# Altium footprint library Devindia_v4.0.PcbLib: 116 footprints (part 2 of 8)
Each footprint in its own frame and in the unit in brackets; x right, y up, seen from the top. Pads: shape width x height; smd on the part's side, far side on the other; paste and mask are expansions set on the pad; w line width, h text height; cw(c..) or ccw(c..) is an arc to the next point about the centre after c.
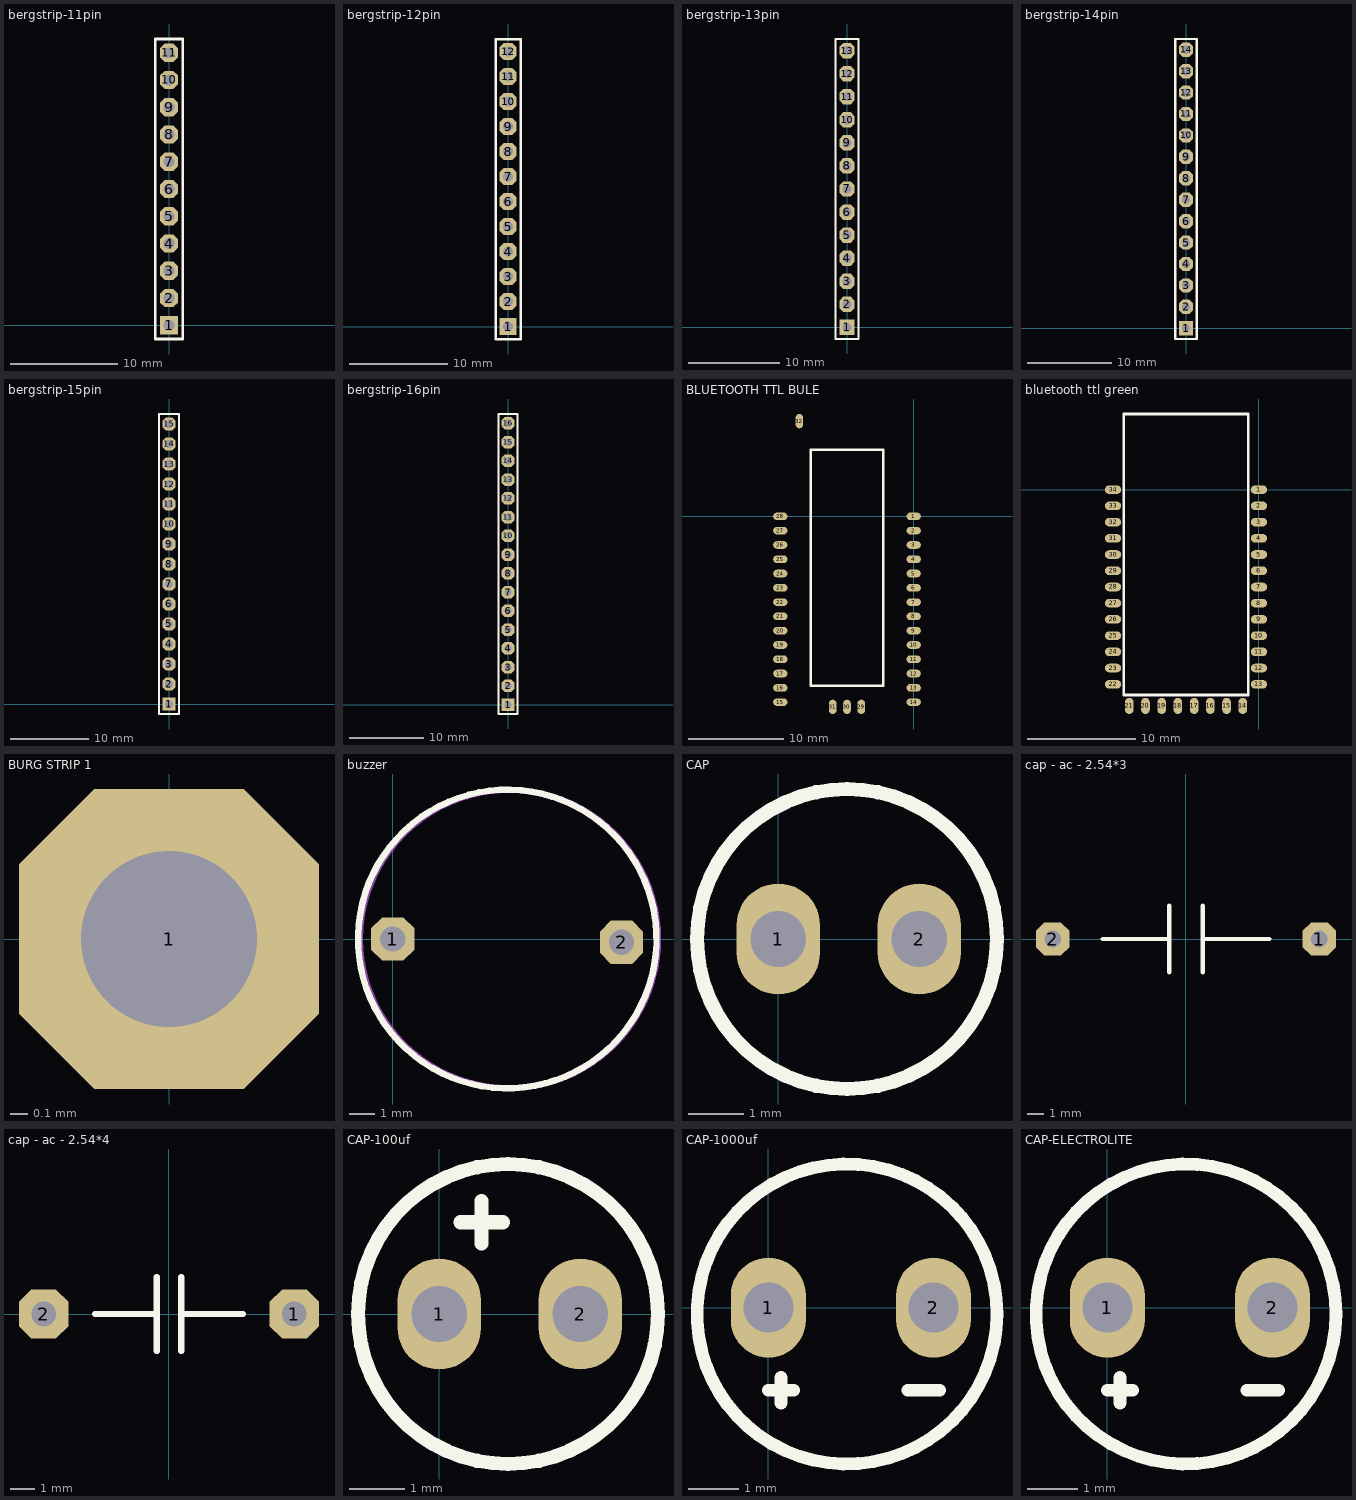
[diagram p1: the footprints below, top view; thin cyan lines are the x and y axes]

## bergstrip-11pin [mm]
pads (11):
  rect 1.7x1.7 hole 1: 1(0,0)
  oct 1.7x1.7 hole 1: 2(0,2.54) 3(0,5.08) 4(0,7.62) 5(0,10.16) 6(0,12.7) 7(0,15.24) 8(0,17.78) 9(0,20.32) 10(0,22.86) 11(0,25.4)
Top Overlay:
  lines w0.254: -1.27,-1.27 1.27,-1.27 1.27,26.67 -1.27,26.67 -1.27,-1.27
3D body: height 2, standoff 0, extent -1.27,24.13 1.27,26.67
3D body: height 9.89, standoff 2, extent -0.49,24.892 0.508,25.888
3D body: height 2, standoff 0, extent -1.27,21.59 1.27,24.13
3D body: height 9.89, standoff 2, extent -0.49,22.352 0.508,23.348
3D body: height 2, standoff 0, extent -1.27,19.05 1.27,21.59
3D body: height 9.89, standoff 2, extent -0.49,19.812 0.508,20.808
3D body: height 2, standoff 0, extent -1.27,16.51 1.27,19.05
3D body: height 9.89, standoff 2, extent -0.49,17.272 0.508,18.268
3D body: height 2, standoff 0, extent -1.27,13.97 1.27,16.51
3D body: height 9.89, standoff 2, extent -0.49,14.732 0.508,15.728
3D body: height 2, standoff 0, extent -1.27,11.43 1.27,13.97
3D body: height 9.89, standoff 2, extent -0.49,12.192 0.508,13.188
3D body: height 2, standoff 0, extent -1.27,8.89 1.27,11.43
3D body: height 9.89, standoff 2, extent -0.49,9.652 0.508,10.648
3D body: height 2, standoff 0, extent -1.27,6.35 1.27,8.89
3D body: height 9.89, standoff 2, extent -0.49,7.112 0.508,8.108
3D body: height 2, standoff 0, extent -1.27,3.81 1.27,6.35
3D body: height 9.89, standoff 2, extent -0.49,4.572 0.508,5.568
3D body: height 2, standoff 0, extent -1.27,1.27 1.27,3.81
3D body: height 9.89, standoff 2, extent -0.49,2.032 0.508,3.028
3D body: height 2, standoff 0, extent -1.27,-1.27 1.27,1.27
3D body: height 9.89, standoff 2, extent -0.49,-0.508 0.508,0.488

## bergstrip-12pin [mm]
pads (12):
  rect 1.7x1.7 hole 1: 1(0,0)
  oct 1.7x1.7 hole 1: 2(0,2.54) 3(0,5.08) 4(0,7.62) 5(0,10.16) 6(0,12.7) 7(0,15.24) 8(0,17.78) 9(0,20.32) 10(0,22.86) 11(0,25.4) 12(0,27.94)
Top Overlay:
  lines w0.254: -1.27,-1.27 -1.27,29.21 1.27,29.21 1.27,-1.27 -1.27,-1.27
3D body: height 9.89, standoff 2, extent -0.49,-0.508 0.508,0.488
3D body: height 2, standoff 0, extent -1.27,-1.27 1.27,1.27
3D body: height 9.89, standoff 2, extent -0.49,2.032 0.508,3.028
3D body: height 2, standoff 0, extent -1.27,1.27 1.27,3.81
3D body: height 9.89, standoff 2, extent -0.49,4.572 0.508,5.568
3D body: height 2, standoff 0, extent -1.27,3.81 1.27,6.35
3D body: height 9.89, standoff 2, extent -0.49,7.112 0.508,8.108
3D body: height 2, standoff 0, extent -1.27,6.35 1.27,8.89
3D body: height 9.89, standoff 2, extent -0.49,9.652 0.508,10.648
3D body: height 2, standoff 0, extent -1.27,8.89 1.27,11.43
3D body: height 9.89, standoff 2, extent -0.49,12.192 0.508,13.188
3D body: height 2, standoff 0, extent -1.27,11.43 1.27,13.97
3D body: height 9.89, standoff 2, extent -0.49,14.732 0.508,15.728
3D body: height 2, standoff 0, extent -1.27,13.97 1.27,16.51
3D body: height 9.89, standoff 2, extent -0.49,17.272 0.508,18.268
3D body: height 2, standoff 0, extent -1.27,16.51 1.27,19.05
3D body: height 9.89, standoff 2, extent -0.49,19.812 0.508,20.808
3D body: height 2, standoff 0, extent -1.27,19.05 1.27,21.59
3D body: height 9.89, standoff 2, extent -0.49,22.352 0.508,23.348
3D body: height 2, standoff 0, extent -1.27,21.59 1.27,24.13
3D body: height 9.89, standoff 2, extent -0.49,24.892 0.508,25.888
3D body: height 2, standoff 0, extent -1.27,24.13 1.27,26.67
3D body: height 9.89, standoff 2, extent -0.49,27.432 0.508,28.428
3D body: height 2, standoff 0, extent -1.27,26.67 1.27,29.21

## bergstrip-13pin [mm]
pads (13):
  rect 1.7x1.7 hole 1: 1(0,0)
  oct 1.7x1.7 hole 1: 2(0,2.54) 3(0,5.08) 4(0,7.62) 5(0,10.16) 6(0,12.7) 7(0,15.24) 8(0,17.78) 9(0,20.32) 10(0,22.86) 11(0,25.4) 12(0,27.94) 13(0,30.48)
Top Overlay:
  lines w0.254: -1.27,-1.27 1.27,-1.27 1.27,31.75 -1.27,31.75 -1.27,-1.27
3D body: height 2, standoff 0, extent -1.27,29.21 1.27,31.75
3D body: height 9.89, standoff 2, extent -0.49,29.972 0.508,30.968
3D body: height 2, standoff 0, extent -1.27,26.67 1.27,29.21
3D body: height 9.89, standoff 2, extent -0.49,27.432 0.508,28.428
3D body: height 2, standoff 0, extent -1.27,24.13 1.27,26.67
3D body: height 9.89, standoff 2, extent -0.49,24.892 0.508,25.888
3D body: height 2, standoff 0, extent -1.27,21.59 1.27,24.13
3D body: height 9.89, standoff 2, extent -0.49,22.352 0.508,23.348
3D body: height 2, standoff 0, extent -1.27,19.05 1.27,21.59
3D body: height 9.89, standoff 2, extent -0.49,19.812 0.508,20.808
3D body: height 2, standoff 0, extent -1.27,16.51 1.27,19.05
3D body: height 9.89, standoff 2, extent -0.49,17.272 0.508,18.268
3D body: height 2, standoff 0, extent -1.27,13.97 1.27,16.51
3D body: height 9.89, standoff 2, extent -0.49,14.732 0.508,15.728
3D body: height 2, standoff 0, extent -1.27,11.43 1.27,13.97
3D body: height 9.89, standoff 2, extent -0.49,12.192 0.508,13.188
3D body: height 2, standoff 0, extent -1.27,8.89 1.27,11.43
3D body: height 9.89, standoff 2, extent -0.49,9.652 0.508,10.648
3D body: height 2, standoff 0, extent -1.27,6.35 1.27,8.89
3D body: height 9.89, standoff 2, extent -0.49,7.112 0.508,8.108
3D body: height 2, standoff 0, extent -1.27,3.81 1.27,6.35
3D body: height 9.89, standoff 2, extent -0.49,4.572 0.508,5.568
3D body: height 2, standoff 0, extent -1.27,1.27 1.27,3.81
3D body: height 9.89, standoff 2, extent -0.49,2.032 0.508,3.028
3D body: height 2, standoff 0, extent -1.27,-1.27 1.27,1.27
3D body: height 9.89, standoff 2, extent -0.49,-0.508 0.508,0.488

## bergstrip-14pin [mm]
pads (14):
  rect 1.7x1.7 hole 1: 1(0,0)
  oct 1.7x1.7 hole 1: 2(0,2.54) 3(0,5.08) 4(0,7.62) 5(0,10.16) 6(0,12.7) 7(0,15.24) 8(0,17.78) 9(0,20.32) 10(0,22.86) 11(0,25.4) 12(0,27.94) 13(0,30.48) 14(0,33.02)
Top Overlay:
  lines w0.254: -1.27,-1.27 1.27,-1.27 1.27,34.29 -1.27,34.29 -1.27,-1.27
3D body: height 9.89, standoff 2, extent -0.49,-0.508 0.508,0.488
3D body: height 2, standoff 0, extent -1.27,-1.27 1.27,1.27
3D body: height 9.89, standoff 2, extent -0.49,2.032 0.508,3.028
3D body: height 2, standoff 0, extent -1.27,1.27 1.27,3.81
3D body: height 9.89, standoff 2, extent -0.49,4.572 0.508,5.568
3D body: height 2, standoff 0, extent -1.27,3.81 1.27,6.35
3D body: height 9.89, standoff 2, extent -0.49,7.112 0.508,8.108
3D body: height 2, standoff 0, extent -1.27,6.35 1.27,8.89
3D body: height 9.89, standoff 2, extent -0.49,9.652 0.508,10.648
3D body: height 2, standoff 0, extent -1.27,8.89 1.27,11.43
3D body: height 9.89, standoff 2, extent -0.49,12.192 0.508,13.188
3D body: height 2, standoff 0, extent -1.27,11.43 1.27,13.97
3D body: height 9.89, standoff 2, extent -0.49,14.732 0.508,15.728
3D body: height 2, standoff 0, extent -1.27,13.97 1.27,16.51
3D body: height 9.89, standoff 2, extent -0.49,17.272 0.508,18.268
3D body: height 2, standoff 0, extent -1.27,16.51 1.27,19.05
3D body: height 9.89, standoff 2, extent -0.49,19.812 0.508,20.808
3D body: height 2, standoff 0, extent -1.27,19.05 1.27,21.59
3D body: height 9.89, standoff 2, extent -0.49,22.352 0.508,23.348
3D body: height 2, standoff 0, extent -1.27,21.59 1.27,24.13
3D body: height 9.89, standoff 2, extent -0.49,24.892 0.508,25.888
3D body: height 2, standoff 0, extent -1.27,24.13 1.27,26.67
3D body: height 9.89, standoff 2, extent -0.49,27.432 0.508,28.428
3D body: height 2, standoff 0, extent -1.27,26.67 1.27,29.21
3D body: height 9.89, standoff 2, extent -0.49,29.972 0.508,30.968
3D body: height 2, standoff 0, extent -1.27,29.21 1.27,31.75
3D body: height 9.89, standoff 2, extent -0.49,32.512 0.508,33.508
3D body: height 2, standoff 0, extent -1.27,31.75 1.27,34.29

## bergstrip-15pin [mm]
pads (15):
  rect 1.7x1.7 hole 1: 1(0,0)
  oct 1.7x1.7 hole 1: 2(0,2.54) 3(0,5.08) 4(0,7.62) 5(0,10.16) 6(0,12.7) 7(0,15.24) 8(0,17.78) 9(0,20.32) 10(0,22.86) 11(0,25.4) 12(0,27.94) 13(0,30.48) 14(0,33.02) 15(0,35.56)
Top Overlay:
  lines w0.254: -1.27,-1.27 1.27,-1.27 1.27,36.83 -1.27,36.83 -1.27,-1.27
3D body: height 9.89, standoff 2, extent -0.49,-0.508 0.508,0.488
3D body: height 2, standoff 0, extent -1.27,-1.27 1.27,1.27
3D body: height 9.89, standoff 2, extent -0.49,2.032 0.508,3.028
3D body: height 2, standoff 0, extent -1.27,1.27 1.27,3.81
3D body: height 9.89, standoff 2, extent -0.49,4.572 0.508,5.568
3D body: height 2, standoff 0, extent -1.27,3.81 1.27,6.35
3D body: height 9.89, standoff 2, extent -0.49,7.112 0.508,8.108
3D body: height 2, standoff 0, extent -1.27,6.35 1.27,8.89
3D body: height 9.89, standoff 2, extent -0.49,9.652 0.508,10.648
3D body: height 2, standoff 0, extent -1.27,8.89 1.27,11.43
3D body: height 9.89, standoff 2, extent -0.49,12.192 0.508,13.188
3D body: height 2, standoff 0, extent -1.27,11.43 1.27,13.97
3D body: height 9.89, standoff 2, extent -0.49,14.732 0.508,15.728
3D body: height 2, standoff 0, extent -1.27,13.97 1.27,16.51
3D body: height 9.89, standoff 2, extent -0.49,17.272 0.508,18.268
3D body: height 2, standoff 0, extent -1.27,16.51 1.27,19.05
3D body: height 9.89, standoff 2, extent -0.49,19.812 0.508,20.808
3D body: height 2, standoff 0, extent -1.27,19.05 1.27,21.59
3D body: height 9.89, standoff 2, extent -0.49,22.352 0.508,23.348
3D body: height 2, standoff 0, extent -1.27,21.59 1.27,24.13
3D body: height 9.89, standoff 2, extent -0.49,24.892 0.508,25.888
3D body: height 2, standoff 0, extent -1.27,24.13 1.27,26.67
3D body: height 9.89, standoff 2, extent -0.49,27.432 0.508,28.428
3D body: height 2, standoff 0, extent -1.27,26.67 1.27,29.21
3D body: height 9.89, standoff 2, extent -0.49,29.972 0.508,30.968
3D body: height 2, standoff 0, extent -1.27,29.21 1.27,31.75
3D body: height 9.89, standoff 2, extent -0.49,32.512 0.508,33.508
3D body: height 2, standoff 0, extent -1.27,31.75 1.27,34.29
3D body: height 9.89, standoff 2, extent -0.49,35.052 0.508,36.048
3D body: height 2, standoff 0, extent -1.27,34.29 1.27,36.83

## bergstrip-16pin [mm]
pads (16):
  rect 1.7x1.7 hole 1: 1(0,0)
  oct 1.7x1.7 hole 1: 2(0,2.54) 3(0,5.08) 4(0,7.62) 5(0,10.16) 6(0,12.7) 7(0,15.24) 8(0,17.78) 9(0,20.32) 10(0,22.86) 11(0,25.4) 12(0,27.94) 13(0,30.48) 14(0,33.02) 15(0,35.56) 16(0,38.1)
Top Overlay:
  lines w0.254: -1.27,-1.27 1.27,-1.27 1.27,39.37 -1.27,39.37 -1.27,-1.27
3D body: height 9.89, standoff 2, extent -0.49,37.592 0.508,38.588
3D body: height 2, standoff 0, extent -1.27,36.83 1.27,39.37
3D body: height 2, standoff 0, extent -1.27,34.29 1.27,36.83
3D body: height 9.89, standoff 2, extent -0.49,35.052 0.508,36.048
3D body: height 2, standoff 0, extent -1.27,31.75 1.27,34.29
3D body: height 9.89, standoff 2, extent -0.49,32.512 0.508,33.508
3D body: height 2, standoff 0, extent -1.27,29.21 1.27,31.75
3D body: height 9.89, standoff 2, extent -0.49,29.972 0.508,30.968
3D body: height 2, standoff 0, extent -1.27,26.67 1.27,29.21
3D body: height 9.89, standoff 2, extent -0.49,27.432 0.508,28.428
3D body: height 2, standoff 0, extent -1.27,24.13 1.27,26.67
3D body: height 9.89, standoff 2, extent -0.49,24.892 0.508,25.888
3D body: height 2, standoff 0, extent -1.27,21.59 1.27,24.13
3D body: height 9.89, standoff 2, extent -0.49,22.352 0.508,23.348
3D body: height 2, standoff 0, extent -1.27,19.05 1.27,21.59
3D body: height 9.89, standoff 2, extent -0.49,19.812 0.508,20.808
3D body: height 2, standoff 0, extent -1.27,16.51 1.27,19.05
3D body: height 9.89, standoff 2, extent -0.49,17.272 0.508,18.268
3D body: height 2, standoff 0, extent -1.27,13.97 1.27,16.51
3D body: height 9.89, standoff 2, extent -0.49,14.732 0.508,15.728
3D body: height 2, standoff 0, extent -1.27,11.43 1.27,13.97
3D body: height 9.89, standoff 2, extent -0.49,12.192 0.508,13.188
3D body: height 2, standoff 0, extent -1.27,8.89 1.27,11.43
3D body: height 9.89, standoff 2, extent -0.49,9.652 0.508,10.648
3D body: height 2, standoff 0, extent -1.27,6.35 1.27,8.89
3D body: height 9.89, standoff 2, extent -0.49,7.112 0.508,8.108
3D body: height 2, standoff 0, extent -1.27,3.81 1.27,6.35
3D body: height 9.89, standoff 2, extent -0.49,4.572 0.508,5.568
3D body: height 2, standoff 0, extent -1.27,1.27 1.27,3.81
3D body: height 9.89, standoff 2, extent -0.49,2.032 0.508,3.028
3D body: height 2, standoff 0, extent -1.27,-1.27 1.27,1.27
3D body: height 9.89, standoff 2, extent -0.49,-0.508 0.508,0.488

## BLUETOOTH TTL BULE [mm]
pads (32):
  oval 1.5x0.8 all layers, no hole: 1(0,0) 2(0,-1.5) 3(0,-3) 4(0,-4.5) 5(0,-6) 6(0,-7.5) 7(0,-9) 8(0,-10.5) 9(0,-12) 10(0,-13.5) 11(0,-15) 12(0,-16.5) 13(0,-18) 14(0,-19.5) 15(-14,-19.5) 16(-14,-18) 17(-14,-16.5) 18(-14,-15) 19(-14,-13.5) 20(-14,-12) 21(-14,-10.5) 22(-14,-9) 23(-14,-7.5) 24(-14,-6) 25(-14,-4.5) 26(-14,-3) 27(-14,-1.5) 28(-14,0)
  oval 0.8x1.5 all layers, no hole: 29(-5.5,-20) 30(-7,-20) 31(-8.5,-20) 32(-12,10)
Top Overlay:
  lines w0.254: -10.795,-17.78 -3.175,-17.78 -3.175,6.985 -10.795,6.985 -10.795,-17.78
3D body: height 3, standoff 2, extent -8.746,-16.684 -7.794,-16.049
3D body: height 3, standoff 2, extent -8.746,-17.954 -7.794,-17.319
3D body: height 3, standoff 2, extent -6.429,-6.08 -5.476,-5.445
3D body: height 3, standoff 2, extent -4.524,-5.73 -3.889,-5.254
3D body: height 3, standoff 2, extent -3.571,-5.73 -2.936,-4.778
3D body: height 2, standoff 0.5, extent -13.604,-19.732 -0.142,9.732
3D body: height 3, standoff 2, extent -7.127,-17.7 -2.809,-13.89
3D body: height 3, standoff 2, extent -7.127,-12.874 -2.809,-6.27
3D body: height 3, standoff 2, extent -11.191,6.557 -6.873,7.446
3D body: height 3, standoff 2, extent -10.683,-9.509 -9.54,-7.096
3D body: height 5, standoff 2, extent -7.762,6.688 -7.264,7.188

## bluetooth ttl green [mm]
pads (34):
  oval 1.5x0.8 all layers, no hole: 1(0,0) 2(0,-1.5) 3(0,-3) 4(0,-4.5) 5(0,-6) 6(0,-7.5) 7(0,-9) 8(0,-10.5) 9(0,-12) 10(0,-13.5) 11(0,-15) 12(0,-16.5) 13(0,-18) 22(-13.5,-18) 23(-13.5,-16.5) 24(-13.5,-15) 25(-13.5,-13.5) 26(-13.5,-12) 27(-13.5,-10.5) 28(-13.5,-9) 29(-13.5,-7.5) 30(-13.5,-6) 31(-13.5,-4.5) 32(-13.5,-3) 33(-13.5,-1.5) 34(-13.5,0)
  oval 0.8x1.5 all layers, no hole: 14(-1.5,-20) 15(-3,-20) 16(-4.5,-20) 17(-6,-20) 18(-7.5,-20) 19(-9,-20) 20(-10.5,-20) 21(-12,-20)
Top Overlay:
  lines w0.254: -12.5,-19 -1,-19 -1,7 -12.5,7 -12.5,-19
3D body: height 2, standoff 0.5, extent -12.954,-19.812 -0.508,7.112
3D body: height 3, standoff 1, extent -6.604,-18.796 -1.524,-14.732
3D body: height 3, standoff 1, extent -6.604,-12.7 -1.524,-6.35
3D body: height 3, standoff 1, extent -11.43,-8.763 -9.652,-6.477
3D body: height 3, standoff 1, extent -4.064,-5.651 -3.048,-5.016
3D body: height 3, standoff 1, extent -11.049,-11.43 -10.414,-10.414
3D body: height 3, standoff 1, extent -6.35,-13.779 -5.334,-13.462
3D body: height 3, standoff 1, extent -4.572,-13.779 -3.556,-13.462
3D body: height 3, standoff 1, extent -2.794,-13.97 -1.778,-13.335

## BURG STRIP 1 [mm]
pads (1):
  oct 1.7x1.7 hole 1: 1(0,0)
3D body: height 2, standoff 0, extent -1.016,-1.016 1.016,1.016
3D body: height 9.89, standoff 2, extent -0.49,-0.508 0.508,0.488

## buzzer [mm]
pads (2):
  oct 1.7x1.7 hole 1: 1(0,0) 2(9,-0.127)
Top Overlay:
  lines w0.254: 10.335,0.729 ccw(c4.505,0) 10.344,0.649
Mechanical 1:
  circle w0.254: c4.572,0 r5.864
3D body: height 5, standoff 0, extent -1.27,-5.842 10.424,5.875

## CAP [mm]
pads (2):
  oval 1.5x2 hole 1: 1(0,0) 2(2.54,0)
Top Overlay:
  circle w0.254: c1.237,0 r2.7
3D body: height 7.01, standoff 7, extent -0.508,-2.032 3.476,1.96
3D body: height 7, standoff 0, extent -1.754,-3.042 4.318,3.042

## cap - ac - 2.54*3 [mm]
pads (2):
  oct 2x2 hole 1: 1(8,0) 2(-8,0)
Top Overlay:
  lines w0.254: -5,0 -1,0 ; -1,-2 -1,2 ; 1,-2 1,2 ; 1,0 5,0
3D body: height 9.5, standoff 5, extent -8.5,-2.25 8.5,2.232
3D body: height 11.75, standoff 7.25, extent -8.5,-2.25 8.5,2.232
3D body: height 7.25, standoff 2.75, extent -8.5,-2.25 8.5,2.232
3D body: height 3.5, standoff 0, extent -8.5,-0.5 -7.504,0.498
3D body: height 3.5, standoff 0, extent 7.502,-0.498 8.498,0.5

## cap - ac - 2.54*4 [mm]
pads (2):
  oct 2x2 hole 1: 1(5.08,0) 2(-5.08,0)
Top Overlay:
  lines w0.254: -3,0 -0.5,0 ; -0.5,-1.5 -0.5,1.5 ; 0.5,-1.5 0.5,1.5 ; 0.5,0 3,0
3D body: height 15.5, standoff 8.5, extent 2.083,-3.486 9.046,3.484
3D body: height 9.5, standoff 2.5, extent 2.083,-3.486 9.046,3.484
3D body: height 12, standoff 6, extent -5.572,-3.486 5.588,3.486
3D body: height 3, standoff 0, extent 4.573,-0.504 5.587,0.508
3D body: height 3, standoff 0, extent -5.587,-0.504 -4.573,0.508
3D body: height 15.49, standoff 8.51, extent -5.572,-3.486 5.588,3.486
3D body: height 9.49, standoff 2.51, extent -5.572,-3.486 5.588,3.486
3D body: height 12, standoff 6, extent 2.083,-3.486 9.055,3.5
3D body: height 15.5, standoff 8.5, extent -9.042,-3.486 -2.072,3.477
3D body: height 9.5, standoff 2.5, extent -9.042,-3.486 -2.072,3.477
3D body: height 12, standoff 6, extent -9.044,-3.486 -2.072,3.5

## CAP-100uf [mm]
pads (2):
  oval 1.5x2 hole 1: 1(0,0) 2(2.54,0)
Top Overlay:
  circle w0.254: c1.237,0 r2.7
  lines w0.254: 0.381,1.651 1.143,1.651 ; 0.762,1.27 0.762,2.032
3D body: height 7, standoff 0, extent -1.754,-3.042 4.318,3.042
3D body: height 7.01, standoff 7, extent -0.508,-2.032 3.476,1.96

## CAP-1000uf [mm]
pads (2):
  oval 1.5x2 hole 1: 1(0,0) 2(3.302,0)
Top Overlay:
  circle w0.254: c1.572,-0.127 r3
  lines w0.254: 0,-1.651 0.508,-1.651 ; 0.254,-1.905 0.254,-1.397 ; 2.794,-1.651 3.429,-1.651
3D body: height 10.1, standoff 10, extent -0.508,-2.159 3.476,1.833
3D body: height 10, standoff 0, extent -1.5,-3.175 4.572,2.909

## CAP-ELECTROLITE [mm]
pads (2):
  oval 1.5x2 hole 1: 1(0,0) 2(3.302,0)
Top Overlay:
  circle w0.254: c1.572,-0.127 r3
  lines w0.254: 0,-1.651 0.508,-1.651 ; 0.254,-1.905 0.254,-1.397 ; 2.794,-1.651 3.429,-1.651
3D body: height 10.1, standoff 10, extent -0.508,-2.159 3.476,1.833
3D body: height 10, standoff 0, extent -1.5,-3.175 4.572,2.909